# Altium schematic symbol library PC_Components.SchLib: 15 symbols
Pins are listed as number, name and electrical type; pins without a type are passive.

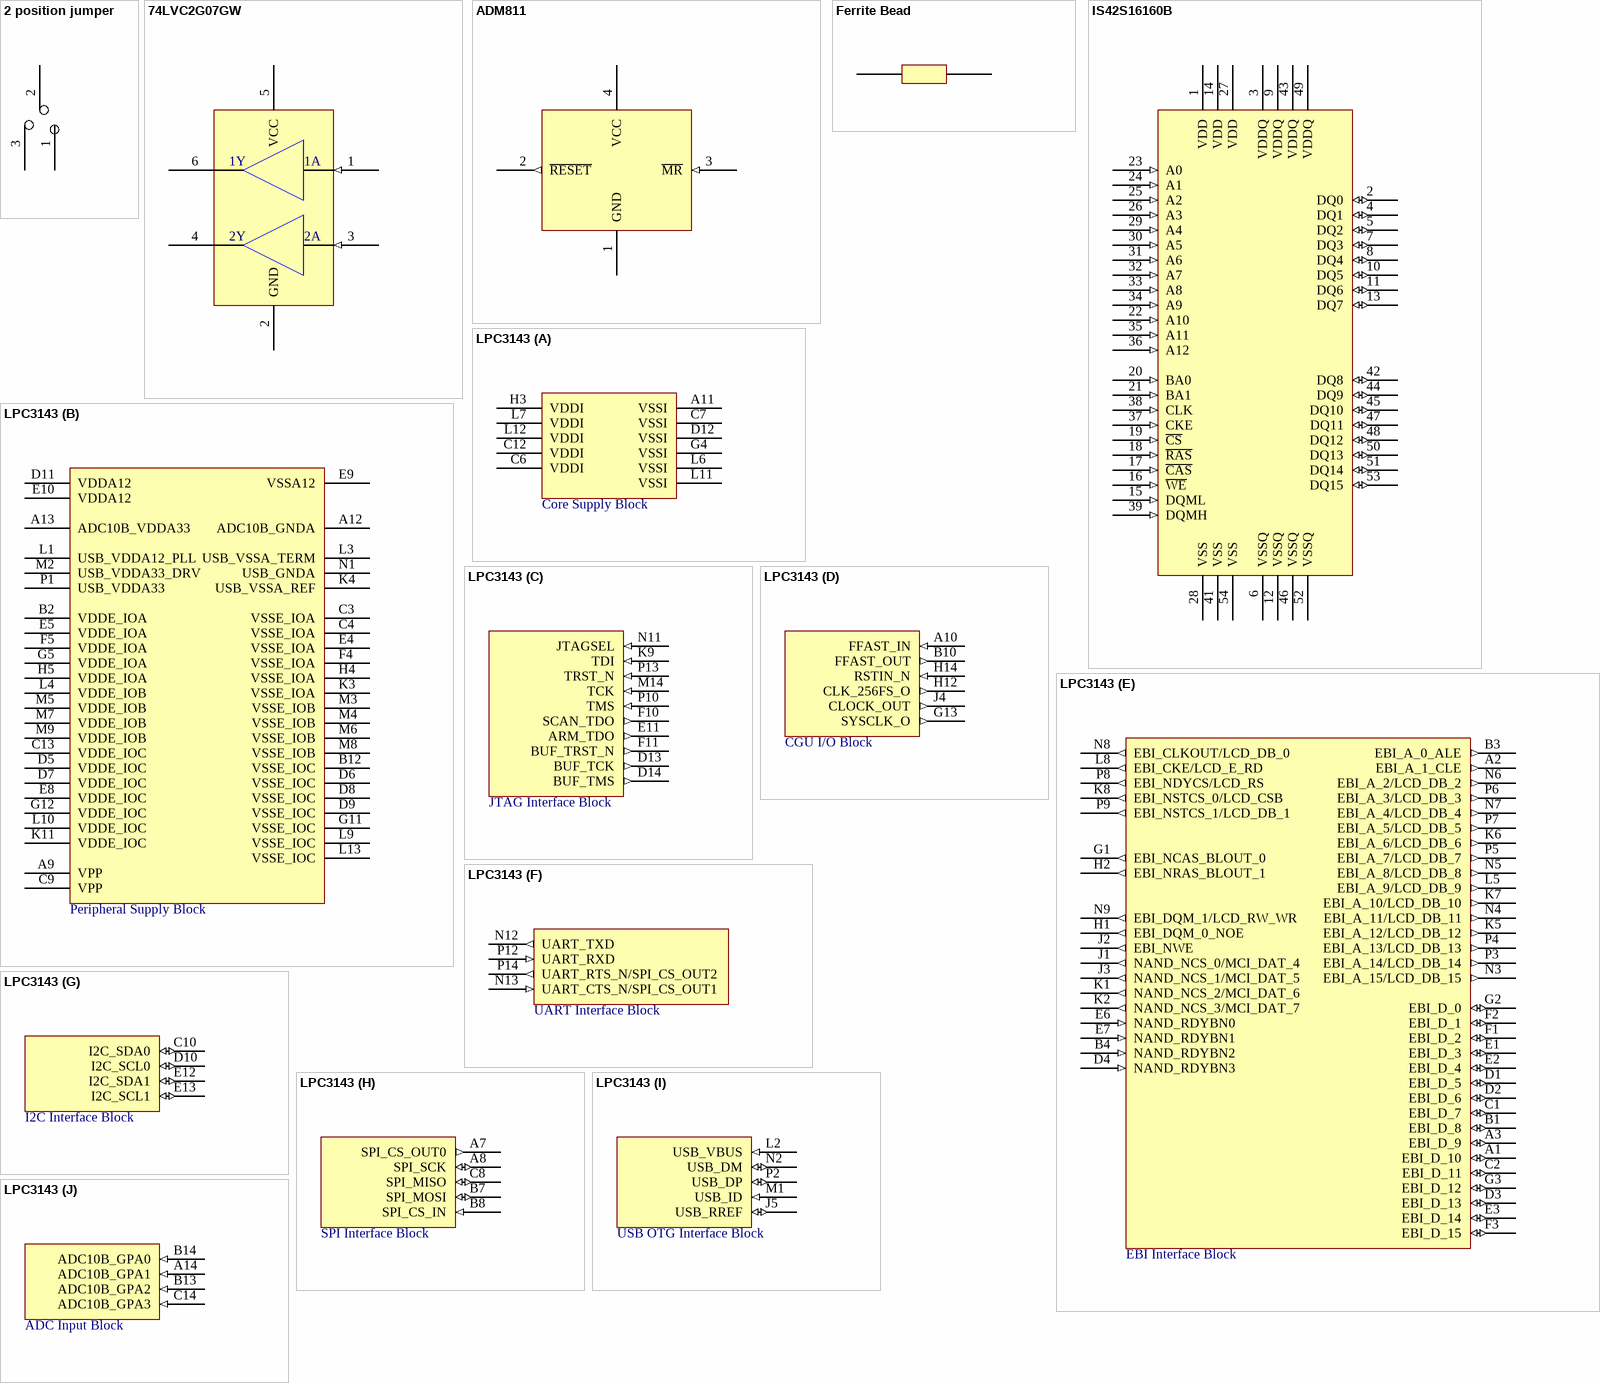
[diagram p0: symbols 2 position jumper to LPC3143]

## 2 position jumper
designator JP?, comment Jumper  (value not drawn)
3 pin jumper for selection; Published: 8-Jun-2000; LatestRevisionDate: 08-Jul-2005; LatestRevisionNote: Mech Layer 1 removed.; PackageReference: LED-0; Publisher: Altium Limited
footprint HDR1X3 (Connector; Header; 3 Position)
pins: 1, 2, 3

## 74LVC2G07GW
designator U?
Non-inverting buffers with open-drain outputs; Published: 8-Jun-2000; LatestRevisionDate: 08-Jul-2005; LatestRevisionNote: Mech Layer 1 removed.; PackageReference: LED-0; Publisher: Altium Limited
footprint SOT65P210X110-6M (SOT23, 6-Leads, Body 2.2x2.2mm (max), Pitch 0.65mm, IPC Low Density)
pins: 1 1A (in), 2 GND (power), 3 2A (in), 4 2Y (hiz), 5 VCC (power), 6 1Y (hiz)

## ADM811
designator U?
Supervisory Circuit; Published: 8-Jun-2000; LatestRevisionDate: 08-Jul-2005; LatestRevisionNote: Mech Layer 1 removed.; PackageReference: LED-0; Publisher: Altium Limited
footprint SOT190P230X102-4N (SOT143, 4-Leads, Body 3.0x2.5mm (max), Pitch 1.90mm, IPC Medium Density)
pins: 1 GND (power), 2 ~{RESET} (out), 3 ~{MR} (in), 4 VCC (power)

## Ferrite Bead
designator FB?  value 22ohm
Standard Ferrite Bead; Published: 8-Jun-2000; LatestRevisionDate: 08-Jul-2005; LatestRevisionNote: Mech Layer 1 removed.; PackageReference: LED-0; Publisher: Altium Limited
pins: 1, 2

## IS42S16160B
designator U?
16Mb x 16 (256Mb) Parallel Interface SDRAM; Published: 8-Jun-2000; LatestRevisionDate: 08-Jul-2005; LatestRevisionNote: Mech Layer 1 removed.; PackageReference: LED-0; Publisher: Altium Limited
footprint TSOP80P1180X120-54M (TSOP, 54-Leads, Body 22.4x10.3mm (max), Pitch 0.80mm, IPC Low Density)
pins: 1 VDD (power) "3V3 Supply", 2 DQ0 (io) "Data I/O line 0", 3 VDDQ (power) "3V3 I/O Supply", 4 DQ1 (io) "Data I/O line 1", 5 DQ2 (io) "Data I/O line 2", 6 VSSQ (power) "I/O Ground", 7 DQ3 (io) "Data I/O line 3", 8 DQ4 (io) "Data I/O line 4", 9 VDDQ (power) "3V3 I/O Supply", 10 DQ5 (io) "Data I/O line 5", 11 DQ6 (io) "Data I/O line 6", 12 VSSQ (power) "I/O Ground", 13 DQ7 (io) "Data I/O line 7", 14 VDD (power) "3V3 Supply", 15 DQML (in) "Data mask x16 lower byte", 16 ~{WE} (in) "Write enable (Active low)", 17 ~{CAS} (in) "Column address strobe (Active low)", 18 ~{RAS} (in) "Row address strobe (Active low)", 19 ~{CS} (in) "Chip select (Active low)", 20 BA0 (in) "Bank select line 0", 21 BA1 (in) "Bank select line 1", 22 A10 (in) "Address Input 10", 23 A0 (in) "Address Input 0", 24 A1 (in) "Address Input 1", 25 A2 (in) "Address Input 2", 26 A3 (in) "Address Input 3", 27 VDD (power) "3V3 Supply", 28 VSS (power) "Ground", 29 A4 (in) "Address Input 4", 30 A5 (in) "Address Input 5", 31 A6 (in) "Address Input 6", 32 A7 (in) "Address Input 7", 33 A8 (in) "Address Input 8", 34 A9 (in) "Address Input 9", 35 A11 (in) "Address Input 11", 36 A12 (in) "Address Input 12", 37 CKE (in) "System clock enable", 38 CLK (in) "System clock input", 39 DQMH (in) "Data mask upper byte", 41 VSS (power) "Ground", 42 DQ8 (io) "Data I/O line 8", 43 VDDQ (power) "3V3 I/O Supply", 44 DQ9 (io) "Data I/O line 9", 45 DQ10 (io) "Data I/O line 10", 46 VSSQ (power) "I/O Ground", 47 DQ11 (io) "Data I/O line 11", 48 DQ12 (io) "Data I/O line 12", 49 VDDQ (power) "3V3 I/O Supply", 50 DQ13 (io) "Data I/O line 13", 51 DQ14 (io) "Data I/O line 14", 52 VSSQ (power) "I/O Ground", 53 DQ15 (io) "Data I/O line 15", 54 VSS (power) "Ground"

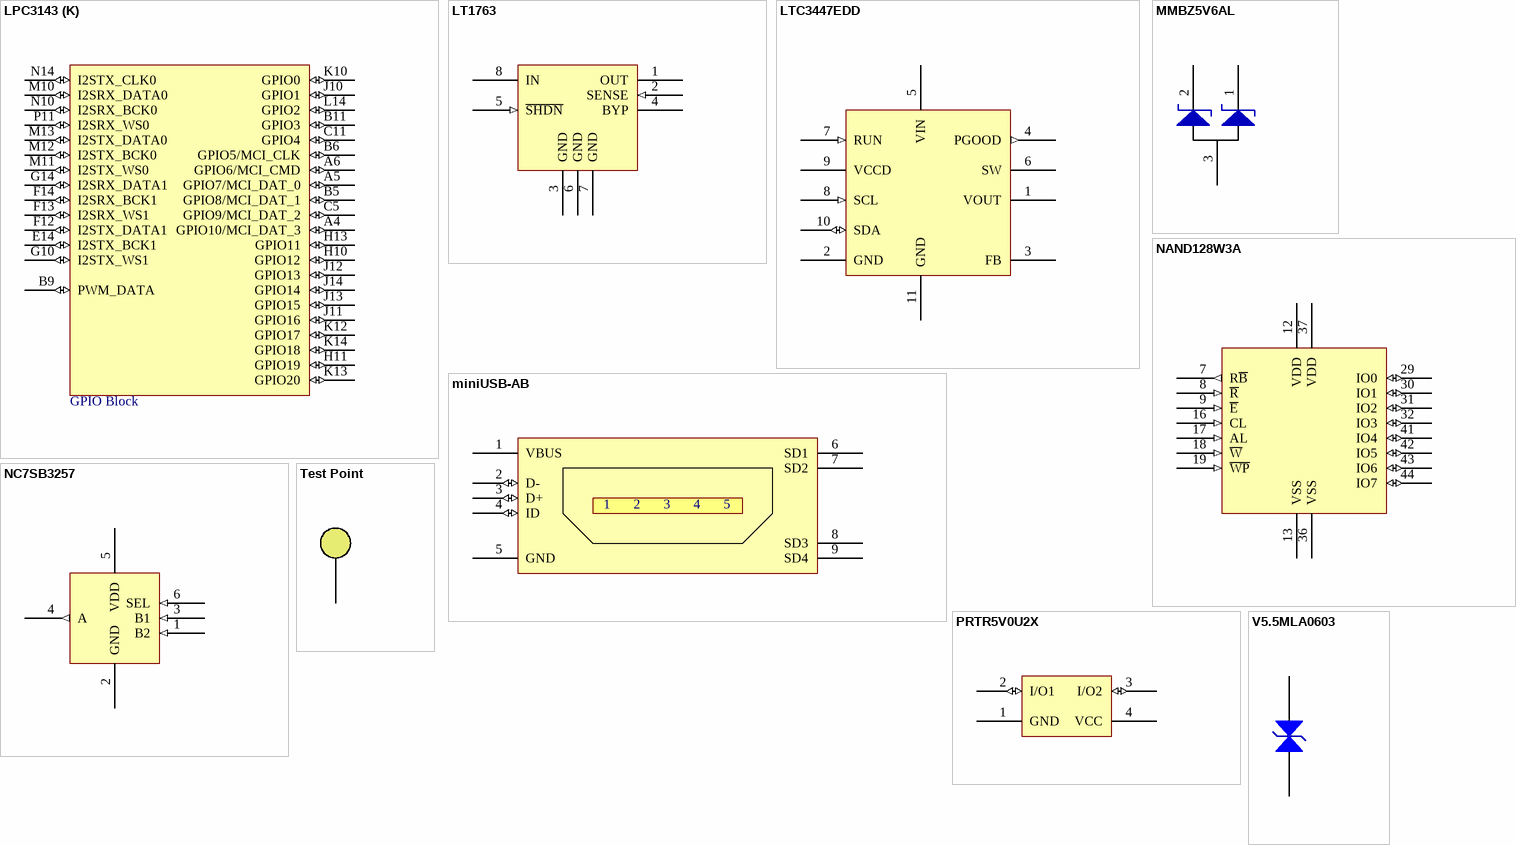
[diagram p1: symbols LPC3143 to V5.5MLA0603]

## LPC3143
designator U?
NXP ARM9 based microcontroller; Published: N/A; LatestRevisionDate: 09/03/2010; LatestRevisionNote: Created; PackageReference: BGA; Publisher: BLUEsat Project
footprint BGA180C80P14X14_1200X1200X120 (BGA, 180-Leads, Body 12.0x12.0mm,  Pitch 0.80mm)
part A pins: A11 VSSI (power) "Digital core ground", C6 VDDI (power) "Digital core supply (SUP1)", C7 VSSI (power) "Digital core ground", C12 VDDI (power) "Digital core supply (SUP1)", D12 VSSI (power) "Digital core ground", G4 VSSI (power) "Digital core ground", H3 VDDI (power) "Digital core supply (SUP1)", L6 VSSI (power) "Digital core ground", L7 VDDI (power) "Digital core supply (SUP1)", L11 VSSI (power) "Digital core ground", L12 VDDI (power) "Digital core supply (SUP1)"
part B pins: A9 VPP (power) "Supply for OTP (SUP1)", A12 ADC10B_GNDA (power) "10-bit ADC analog ground", A13 ADC10B_VDDA33 (power) "10-bit ADC analog supply (SUP3)", B2 VDDE_IOA (power) "Peripheral supply for NAND interface (SUP4)", B12 VSSE_IOC (power) "Peripheral ground", C3 VSSE_IOA (power) "Peripheral ground for NAND flash", C4 VSSE_IOA (power) "Peripheral ground for NAND flash", C9 VPP (power) "Supply for OTP (SUP3)", C13 VDDE_IOC (power) "Peripheral supply (SUP3)", D5 VDDE_IOC (power) "Peripheral supply (SUP3)", D6 VSSE_IOC (power) "Peripheral ground", D7 VDDE_IOC (power) "Peripheral supply (SUP3)", D8 VSSE_IOC (power) "Peripheral ground", D9 VSSE_IOC (power) "Peripheral ground", D11 VDDA12 (power) "12 MHz oscilator/PLLs analog supply (SUP1)", E4 VSSE_IOA (power) "Peripheral ground for NAND flash", E5 VDDE_IOA (power) "Peripheral supply for NAND interface (SUP4)", E8 VDDE_IOC (power) "Peripheral supply (SUP3)", E9 VSSA12 (power) "12 MHz oscillator/PLLs analog ground", E10 VDDA12 (power) "12 MHz oscilator/PLLs analog supply (SUP1)", F4 VSSE_IOA (power) "Peripheral ground for NAND flash", F5 VDDE_IOA (power) "Peripheral supply for NAND interface (SUP4)", G5 VDDE_IOA (power) "Peripheral supply for NAND interface (SUP4)", G11 VSSE_IOC (power) "Peripheral ground", G12 VDDE_IOC (power) "Peripheral supply (SUP3)", H4 VSSE_IOA (power) "Peripheral ground for NAND flash", H5 VDDE_IOA (power) "Peripheral supply for NAND interface (SUP4)", K3 VSSE_IOA (power) "Peripheral ground for NAND flash", K4 USB_VSSA_REF (power) "USB analog ground for clean reference", K11 VDDE_IOC (power) "Peripheral supply (SUP3)", L1 USB_VDDA12_PLL (power) "USB PLL supply (SUP1)", L3 USB_VSSA_TERM (power) "USB analog ground for on-chip termination resistors", L4 VDDE_IOB (power) "Peripheral supply for SDRAM/LCD (SUP8)", L9 VSSE_IOC (power) "Peripheral ground", L10 VDDE_IOC (power) "Peripheral supply (SUP3)", L13 VSSE_IOC (power) "Peripheral ground", M2 USB_VDDA33_DRV (power) "USB analog supply for driver (SUP3)", M3 VSSE_IOB (power) "Peripheral ground for SDRAM/LCD", M4 VSSE_IOB (power) "Peripheral ground for SDRAM/LCD", M5 VDDE_IOB (power) "Peripheral supply for SDRAM/LCD (SUP8)", M6 VSSE_IOB (power) "Peripheral ground for SDRAM/LCD", M7 VDDE_IOB (power) "Peripheral supply for SDRAM/LCD (SUP8)", M8 VSSE_IOB (power) "Peripheral ground for SDRAM/LCD", M9 VDDE_IOB (power) "Peripheral supply for SDRAM/LCD (SUP8)", N1 USB_GNDA (power) "USB analog ground", P1 USB_VDDA33 (power) "USB analog supply for PHY (SUP3)"
part C pins: D13 BUF_TCK (out) "Buffered TCK out signal (SUP3)", D14 BUF_TMS (out) "Buffered TMS out signal (SUP3)", E11 ARM_TDO (out) "JTAG TPO output from ARM TAP controller (SUP3)", F10 SCAN_TDO (out) "JTAG TDO signal from scan TAP controller (SUP3)", F11 BUF_TRST_N (out) "Buffered TRST_N out signal (SUP3)", K9 TDI (in) "JTAG data input (SUP3)", M14 TCK (in) "JTAG clock input (SUP3)", N11 JTAGSEL (in) "JTAG Selection (SUP3)", P10 TMS (in) "JTAG mode select input", P13 TRST_N (in) "JTAG TAP controller reset (Active low, SUP3)"
part D pins: A10 FFAST_IN (in) "12 MHz oscillator clock input (SUP1)", B10 FFAST_OUT (out) "12 MHz oscillator clock output (SUP1)", G13 SYSCLK_O (out) "Programmable clock output (SUP3)", H12 CLK_256FS_O (out) "Programmable clock output (SUP3)", H14 RSTIN_N (in) "System Reset Input (Active Low. SUP3)", J4 CLOCK_OUT (out) "Programmable clock output (SUP4)"
part E pins: A1 EBI_D_10 (io) "EBI data line 10 (SUP4)", A2 EBI_A_1_CLE (out) "EBI command latch enable/address line 1 (SUP4)", A3 EBI_D_9 (io) "EBI data line 9 (SUP4)", B1 EBI_D_8 (io) "EBI data line 8 (SUP4)", B3 EBI_A_0_ALE (out) "EBI address latch enable/address line 0 (SUP4)", B4 NAND_RDYBN2 (in) "EBI NAND ready/busy 2", C1 EBI_D_7 (io) "EBI data line 7 (SUP4)", C2 EBI_D_11 (io) "EBI data line 11 (SUP4)", D1 EBI_D_5 (io) "EBI data line 5 (SUP4)", D2 EBI_D_6 (io) "EBI data line 6 (SUP4)", D3 EBI_D_13 (io) "EBI data line 13 (SUP4)", D4 NAND_RDYBN3 (in) "EBI NAND ready/busy 3", E1 EBI_D_3 (io) "EBI data line 3 (SUP4)", E2 EBI_D_4 (io) "EBI data line 4 (SUP4)", E3 EBI_D_14 (io) "EBI data line 14 (SUP4)", E6 NAND_RDYBN0 (in) "EBI NAND ready/busy 0", E7 NAND_RDYBN1 (in) "EBI NAND ready/busy 1", F1 EBI_D_2 (io) "EBI data line 2 (SUP4)", F2 EBI_D_1 (io) "EBI data line 1 (SUP4)", F3 EBI_D_15 (io) "EBI data line 15 (SUP4)", G1 EBI_NCAS_BLOUT_0 (out) "EBI lower lane byte select (7:0)", G2 EBI_D_0 (io) "EBI data line 0 (SUP4)", G3 EBI_D_12 (io) "EBI data line 12 (SUP4)", H1 EBI_DQM_0_NOE (out) "EBI SDRAM data mask 0/NAND read enable (active low)", H2 EBI_NRAS_BLOUT_1 (out) "EBI upper lane byte select (15:8)", J1 NAND_NCS_0/MCI_DAT_4 (out) "EBI NAND chip enable 0/MCI I/O line 4", J2 EBI_NWE (out) "EBI NAND write enable (active low)", J3 NAND_NCS_1/MCI_DAT_5 (out) "EBI NAND chip enable 1/MCI I/O line 5", K1 NAND_NCS_2/MCI_DAT_6 (out) "EBI NAND chip enable 2/MCI I/O line 6", K2 NAND_NCS_3/MCI_DAT_7 (out) "EBI NAND chip enable 3/MCI I/O line 7", K5 EBI_A_12/LCD_DB_12 (out) "EBI address line 12 (SUP4)", K6 EBI_A_6/LCD_DB_6 (out) "EBI address line 6 (SUP4)", K7 EBI_A_10/LCD_DB_10 (out) "EBI address line 10 (SUP4)", K8 EBI_NSTCS_0/LCD_CSB (out) "EBI static memory chip select 0", L5 EBI_A_9/LCD_DB_9 (out) "EBI address line 9 (SUP4)", L8 EBI_CKE/LCD_E_RD (out) "EBI SDRAM clock enable", N3 EBI_A_15/LCD_DB_15 (out) "EBI address line 15 (SUP4)", N4 EBI_A_11/LCD_DB_11 (out) "EBI address line 11 (SUP4)", N5 EBI_A_8/LCD_DB_8 (out) "EBI address line 8 (SUP4)", N6 EBI_A_2/LCD_DB_2 (out) "EBI address line 2 (SUP4)", N7 EBI_A_4/LCD_DB_4 (out) "EBI address line 4 (SUP4)", N8 EBI_CLKOUT/LCD_DB_0 (out) "EBI SDRAM clock", N9 EBI_DQM_1/LCD_RW_WR (out) "EBI SDRAM data mask 1", P3 EBI_A_14/LCD_DB_14 (out) "EBI address line 14 (SUP4)", P4 EBI_A_13/LCD_DB_13 (out) "EBI address line 13 (SUP4)", P5 EBI_A_7/LCD_DB_7 (out) "EBI address line 7 (SUP4)", P6 EBI_A_3/LCD_DB_3 (out) "EBI address line 3 (SUP4)", P7 EBI_A_5/LCD_DB_5 (out) "EBI address line 5 (SUP4)", P8 EBI_NDYCS/LCD_RS (out) "EBI SDRAM chip select", P9 EBI_NSTCS_1/LCD_DB_1 (out) "EBI static memory chip select 1"
part F pins: N12 UART_TXD (out) "UART serial output (SUP3)", N13 UART_CTS_N/SPI_CS_OUT1 (in) "UART clear to send/SPI chip select 1 (SUP3)", P12 UART_RXD (in) "UART serial input (SUP3)", P14 UART_RTS_N/SPI_CS_OUT2 (out) "UART ready to send/SPI chip select 2 (SUP3)"
part G pins: C10 I2C_SDA0 (io) "I2C0 serial data line (SUP3)", D10 I2C_SCL0 (io) "I2C0 serial clock line (SUP3)", E12 I2C_SDA1 (io) "I2C1 serial data line (SUP3)", E13 I2C_SCL1 (io) "I2C1 serial clock line (SUP3)"
part H pins: A7 SPI_CS_OUT0 (out) "SPI chip select (master) (SUP3)", A8 SPI_SCK (io) "SPI clock input/output (SUP3)", B7 SPI_MOSI (io) "SPI data output/input (SUP3)", B8 SPI_CS_IN (in) "SPI chip select (slave) (SUP3)", C8 SPI_MISO (io) "SPI data input/output (SUP3)"
part I pins: J5 USB_RREF (io) "External reference resistor to GND (SUP3)", L2 USB_VBUS (in) "USB supply detection line (SUP5)", M1 USB_ID (in) "Device/host mode indicator (SUP3)", N2 USB_DM (io) "USB D-", P2 USB_DP (io) "USB D+ (SUP3)"
part J pins: A14 ADC10B_GPA1 (in) "10-bit ADC analog input (SUP3)", B13 ADC10B_GPA2 (in) "10-bit ADC analog input (SUP3)", B14 ADC10B_GPA0 (in) "10-bit ADC analog input (SUP3)", C14 ADC10B_GPA3 (in) "10-bit ADC analog input (SUP3)"
part K pins: A4 GPIO10/MCI_DAT_3 (io) "GPIO10/MCI data I/O 3 (SUP3)", A5 GPIO7/MCI_DAT_0 (io) "GPIO7/MCI data I/O 0 (SUP3)", A6 GPIO6/MCI_CMD (io) "GPIO6/MCI command I/O (SUP3)", B5 GPIO8/MCI_DAT_1 (io) "GPIO8/MCI data I/O 1 (SUP3)", B6 GPIO5/MCI_CLK (io) "GPIO5/MCI card clock (SUP3)", B9 PWM_DATA (io) "PWM output/GPIO (SUP3)", B11 GPIO3 (io) "GPIO3 (SUP3)", C5 GPIO9/MCI_DAT_2 (io) "GPIO9/MCI data I/O 2 (SUP3)", C11 GPIO4 (io) "GPIO4 (SUP3)", E14 I2STX_BCK1 (io) "I2S Tx bit clock 1/GPIO (SUP3)", F12 I2STX_DATA1 (io) "I2S Tx serial data 1/GPIO (SUP3)", F13 I2SRX_WS1 (io) "I2S Rx word select 1/GPIO (SUP3)", F14 I2SRX_BCK1 (io) "I2S Rx bit clock 1/GPIO (SUP3)", G10 I2STX_WS1 (io) "I2S Tx word select 1/GPIO (SUP3)", G14 I2SRX_DATA1 (io) "I2S Rx serial data 1/GPIO (SUP3)", H10 GPIO12 (io) "GPIO12 (SUP3)", H11 GPIO19 (io) "GPIO19 (SUP3)", H13 GPIO11 (io) "GPIO11 (SUP3)", J10 GPIO1 (io) "GPIO1/Mode pin 1 (SUP3)", J11 GPIO16 (io) "GPIO16 (SUP3)", J12 GPIO13 (io) "GPIO13 (SUP3)", J13 GPIO15 (io) "GPIO15 (SUP3)", J14 GPIO14 (io) "GPIO14 (SUP3)", K10 GPIO0 (io) "GPIO0/Mode pin 0 (SUP3)", K12 GPIO17 (io) "GPIO17 (SUP3)", K13 GPIO20 (io) "GPIO20 (SUP3)", K14 GPIO18 (io) "GPIO18 (SUP3)", L14 GPIO2 (io) "GPIO2/mode pin 2 (SUP3)", M10 I2SRX_DATA0 (io) "I2S Rx serial data 0/GPIO (SUP3)", M11 I2STX_WS0 (io) "I2S Tx word select 0/GPIO (SUP3)", M12 I2STX_BCK0 (io) "I2S Tx bit clock 0/GPIO (SUP3)", M13 I2STX_DATA0 (io) "I2S Tx serial data 0/GPIO (SUP3)", N10 I2SRX_BCK0 (io) "I2S Rx bit clock 0/GPIO (SUP3)", N14 I2STX_CLK0 (io) "I2S serial clock/GPIO (SUP3)", P11 I2SRX_WS0 (io) "I2S Rx word select 0/GPIO (SUP3)"
part A text: Core Supply Block
part B text: Peripheral Supply Block
part C text: JTAG Interface Block
part D text: CGU I/O Block
part E text: EBI Interface Block
part F text: UART Interface Block
part G text: I2C Interface Block
part H text: SPI Interface Block
part I text: USB OTG Interface Block
part J text: ADC Input Block
part K text: GPIO Block

## LT1763
designator U?
Linear Technology Voltage Regulator; Published: 8-Jun-2000; LatestRevisionDate: 08-Jul-2005; LatestRevisionNote: Mech Layer 1 removed.; PackageReference: LED-0; Publisher: Altium Limited
footprint SOIC127P600X175-8N (SOIC, 8-Leads, Body 5.0x4.0mm (max), Pitch 1.27mm, IPC Medium Density)
pins: 1 OUT (power), 2 SENSE (in), 3 GND (power), 4 BYP, 5 ~{SHDN} (in), 6 GND (power), 7 GND (power), 8 IN (power)

## LTC3447EDD
designator U?
I2C Controlled VReg; Published: 8-Jun-2000; LatestRevisionDate: 08-Jul-2005; LatestRevisionNote: Mech Layer 1 removed.; PackageReference: LED-0; Publisher: Altium Limited
footprint LTC3447_DFP11
pins: 1 VOUT (power), 2 GND (power), 3 FB (oc), 4 PGOOD (out), 5 VIN (power), 6 SW (oe), 7 RUN (in), 8 SCL (in), 9 VCCD (power), 10 SDA (io), 11 GND (power) "Exposed pad on underside"

## miniUSB-AB
designator J?, comment Mini-AB Socket
MiniUSB AB type socket; Published: 8-Jun-2000; LatestRevisionDate: 08-Jul-2005; LatestRevisionNote: Mech Layer 1 removed.; PackageReference: LED-0; Publisher: Altium Limited
footprint miniUSB-AB
pins: 1 VBUS (power), 2 D- (io), 3 D+ (io), 4 ID (io), 5 GND (power), 6 SD1, 7 SD2, 8 SD3, 9 SD4

## MMBZ5V6AL
designator D?
Dual Transient Voltage Suppression Diode IC; Published: 8-Jun-2000; LatestRevisionDate: 08-Jul-2005; LatestRevisionNote: Mech Layer 1 removed.; PackageReference: LED-0; Publisher: Altium Limited
footprint SOT95P230X110-3M (SOT23, 3-Leads, Body 3.0x2.5mm (max), Pitch 0.95mm, IPC Low Density)
pins: 1, 2, 3

## NAND128W3A
designator U?
128Mb 8b wide NAND Flash; Published: 8-Jun-2000; LatestRevisionDate: 08-Jul-2005; LatestRevisionNote: Mech Layer 1 removed.; PackageReference: LED-0; Publisher: Altium Limited
footprint TSSOP50P2000X120-48M (TSSOP, 48-Leads, Body 12.1x18.5mm (max), Pitch 0.50mm, IPC Low Density)
pins: 7 R~{B} (out) "Ready/Not busy", 8 ~{R} (in) "Read enable (Active low)", 9 ~{E} (in) "Chip enable (Active low)", 12 VDD (power) "3V3 Supply", 13 VSS (power) "Ground", 16 CL (in) "Command latch", 17 AL (in) "Address latch", 18 ~{W} (in) "Write enable (Active low)", 19 ~{WP} (in) "Write protect (Active low)", 29 IO0 (io) "NAND I/O 0", 30 IO1 (io) "NAND I/O 1", 31 IO2 (io) "NAND I/O 2", 32 IO3 (io) "NAND I/O 3", 36 VSS (power) "Ground", 37 VDD (power) "3V3 Supply", 41 IO4 (io) "NAND I/O 4", 42 IO5 (io) "NAND I/O 5", 43 IO6 (io) "NAND I/O 6", 44 IO7 (io) "NAND I/O 7"

## NC7SB3257
designator U?
2:1 Mux, Fairchild; Published: 8-Jun-2000; LatestRevisionDate: 08-Jul-2005; LatestRevisionNote: Mech Layer 1 removed.; PackageReference: LED-0; Publisher: Altium Limited
footprint TSOP65P210X110-6N (TSOP, 6-Leads, Body 2.2x1.4mm (max), Pitch 0.65mm, IPC Medium Density)
pins: 1 B2 (in), 2 GND (power), 3 B1 (in), 4 A (out), 5 VDD (power), 6 SEL (in)

## PRTR5V0U2X
designator U?
Electrostatic discharge protection diode IC - NXP; Published: 8-Jun-2000; LatestRevisionDate: 08-Jul-2005; LatestRevisionNote: Mech Layer 1 removed.; PackageReference: LED-0; Publisher: Altium Limited
footprint SOT190P230X110-4N (SOT143, 4-Leads, Body 3.0x2.5mm (max), Pitch 1.90mm, IPC Medium Density)
pins: 1 GND (power), 2 I/O1 (io), 3 I/O2 (io), 4 VCC (power)

## Test Point
designator TP?  (value not drawn)
Published: 8-Jun-2000; LatestRevisionDate: 08-Jul-2005; LatestRevisionNote: Mech Layer 1 removed.; PackageReference: LED-0; Publisher: Altium Limited
footprint PIN1 (Connector; Plug)
pins: 1

## V5.5MLA0603
designator D?, comment V5.5MLA
Multilayer varistor - Transient voltage protection device; Published: 8-Jun-2000; LatestRevisionDate: 08-Jul-2005; LatestRevisionNote: Mech Layer 1 removed.; PackageReference: LED-0; Publisher: Altium Limited
footprint MLA-1206 (Chip Resistor, 2-Leads, Body 3.2x1.6mm, IPC Medium Density)
pins: 1, 2